# EAGLE library part 255-412-5 (library con-wago255)
WAGO
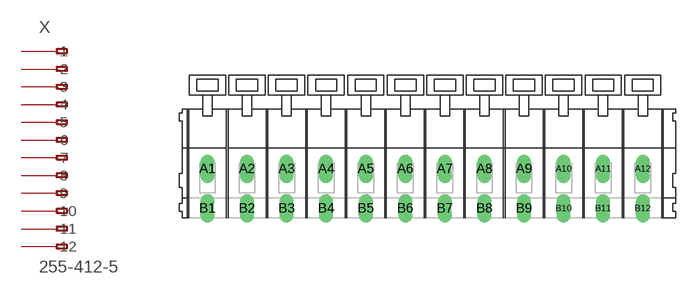
[diagram p35: symbol with the pads of 255-412-5; footprint 255-412-5]

Designator prefix X

## 255-412-5 (OC_FARNELL: unknown; OC_NEWARK: unknown)  [255-412-5]
A1  -1  pas
A2  -2  pas
A3  -3  pas
A4  -4  pas
A5  -5  pas
A6  -6  pas
A7  -7  pas
A8  -8  pas
A9  -9  pas
A10  -10  pas
A11  -11  pas
A12  -12  pas
B1  B-1  pas
B2  B-2  pas
B3  B-3  pas
B4  B-4  pas
B5  B-5  pas
B6  B-6  pas
B7  B-7  pas
B8  B-8  pas
B9  B-9  pas
B10  B-10  pas
B11  B-11  pas
B12  B-12  pas

## Footprint 255-412-5 (pad centres in mm)
Grid 5.0 mm
drill 1.2 long: A1 -27.5,0; A2 -22.5,0; A3 -17.5,0; A4 -12.5,0; A5 -7.5,0; A6 -2.5,0; A7 2.5,0; A8 7.5,0; A9 12.5,0; A10 17.5,0; A11 22.5,0; A12 27.5,0; B1 -27.5,-5; B2 -22.5,-5; B3 -17.5,-5; B4 -12.5,-5; B5 -7.5,-5; B6 -2.5,-5; B7 2.5,-5; B8 7.5,-5; B9 12.5,-5; B10 17.5,-5; B11 22.5,-5; B12 27.5,-5